# Altium footprint library AP7217A.PcbLib: 1 footprints
Each footprint in its own frame and in the unit in brackets; x right, y up, seen from the top. Pads: shape width x height; smd on the part's side, far side on the other; paste and mask are expansions set on the pad; w line width, h text height; cw(c..) or ccw(c..) is an arc to the next point about the centre after c.
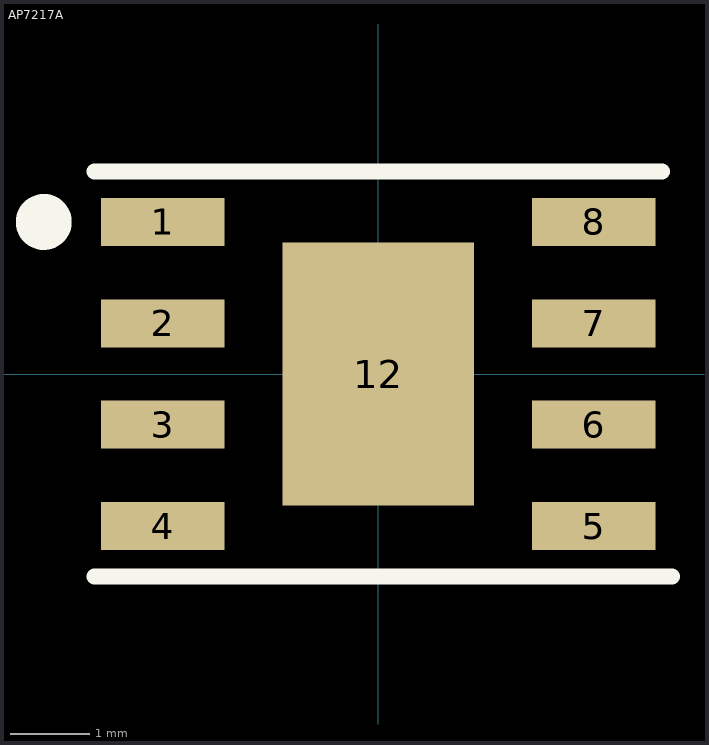
[diagram p0: the footprint, top view; thin cyan lines are the x and y axes]

## AP7217A [mm] "dim:5.9x4.85. Package: SOP-8L-EP"
pads (9):
  rect 1.55x0.6 smd: 1(-2.7,1.905) 2(-2.7,0.635) 3(-2.7,-0.635) 4(-2.7,-1.905) 6(2.7,-0.635) 7(2.7,0.635) 8(2.7,1.905)
  rect 1.55x0.6 smd paste+0: 5(2.7,-1.905)
  rect 2.4x3.3 smd: 12(0,0)
Top Overlay:
  circle w0.5: c-4.191,1.905 r0.1
  lines w0.2: -3.556,-2.54 3.683,-2.54 ; -3.556,2.54 3.556,2.54
3D body "SOP-8-EP.STEP": height 1.75, standoff 0, extent -3.1,-2.5 3.1,2.5